# Altium integrated library GBU8D.IntLib: 1 symbol
Pins are listed as number, name and electrical type; pins without a type are passive.

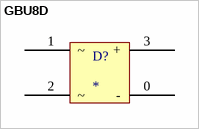
[diagram p0: symbol GBU8D]

## GBU8D
designator D?
Bridge Rectifier Single Phase Standard 200V Through Hole GBU; MP: GBU8D; MF: ON Semiconductor; Purchase-URL: https://pricing.snapeda.com/search/part/GBU8D/?ref=eda; Package: SIP-4 ON Semiconductor; Value: *; Price: None; SnapEDA_Link: https://www.snapeda.com/parts/GBU8D/ON%20Semiconductor/view-part/4796638/?ref=snap; Availability: Warning
footprint DIOB_GBU8D
pins: 0 -, 1 ~, 2 ~, 3 +